# EAGLE library part ATMEGA328PB (library StevenV1)
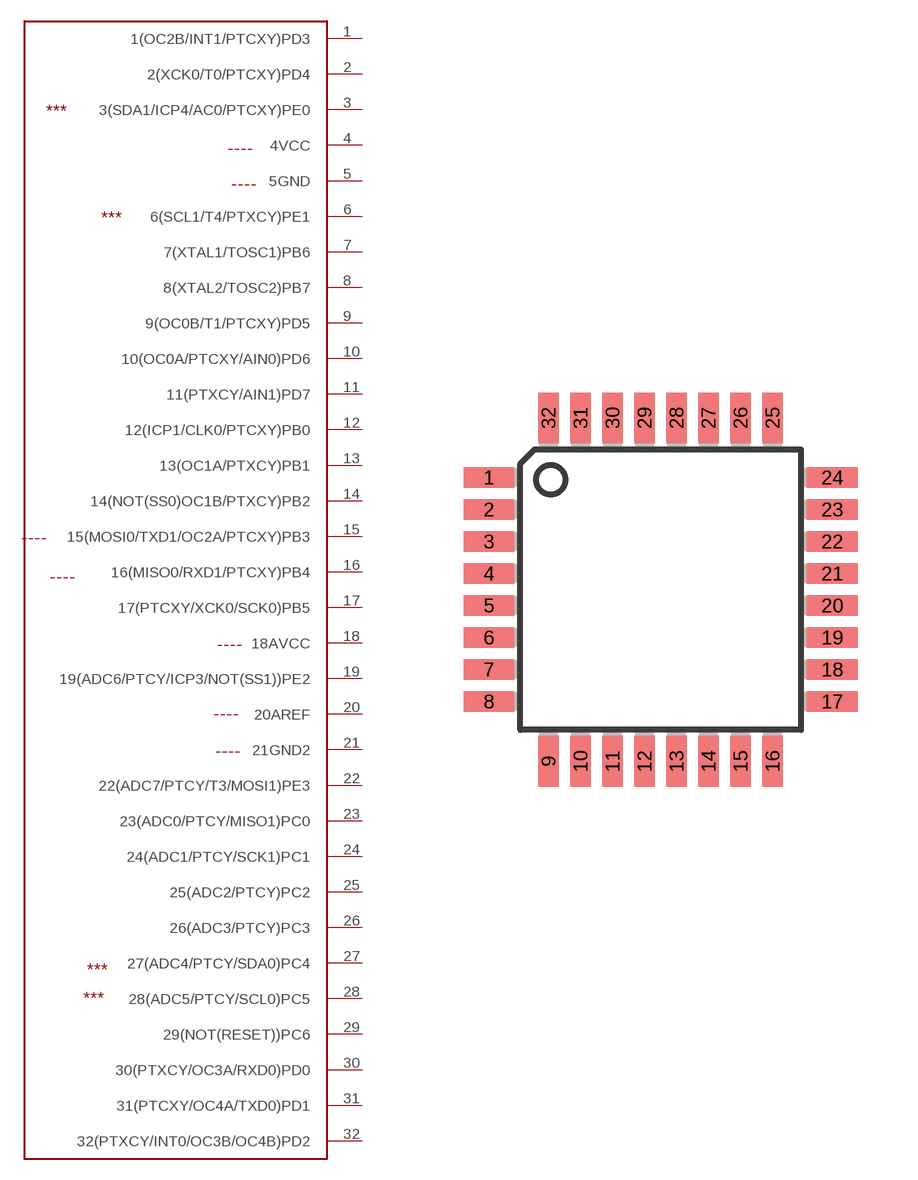
[diagram p14: symbol with the pads of TQFP32-08; footprint TQFP32-08]

Designator prefix -

## ATMEGA328PB  [TQFP32-08]
1  1(OC2B/INT1/PTCXY)PD3
2  2(XCK0/T0/PTCXY)PD4
3  3(SDA1/ICP4/AC0/PTCXY)PE0
4  4VCC
5  5GND
6  6(SCL1/T4/PTXCY)PE1
7  7(XTAL1/TOSC1)PB6
8  8(XTAL2/TOSC2)PB7
9  9(OC0B/T1/PTCXY)PD5
10  10(OC0A/PTCXY/AIN0)PD6
11  11(PTXCY/AIN1)PD7
12  12(ICP1/CLK0/PTCXY)PB0
13  13(OC1A/PTXCY)PB1
14  14(NOT(SS0)OC1B/PTXCY)PB2
15  15(MOSI0/TXD1/OC2A/PTCXY)PB3
16  16(MISO0/RXD1/PTCXY)PB4
17  17(PTCXY/XCK0/SCK0)PB5
18  18AVCC
19  19(ADC6/PTCY/ICP3/NOT(SS1))PE2
20  20AREF
21  21GND2
22  22(ADC7/PTCY/T3/MOSI1)PE3
23  23(ADC0/PTCY/MISO1)PC0
24  24(ADC1/PTCY/SCK1)PC1
25  25(ADC2/PTCY)PC2
26  26(ADC3/PTCY)PC3
27  27(ADC4/PTCY/SDA0)PC4
28  28(ADC5/PTCY/SCL0)PC5
29  29(NOT(RESET))PC6
30  30(PTXCY/OC3A/RXD0)PD0
31  31(PTCXY/OC4A/TXD0)PD1
32  32(PTXCY/INT0/OC3B/OC4B)PD2

## Footprint TQFP32-08 (pad centres in mm)
Thin Plasic Quad Flat Package Grid 0.8 mm
smd 1.27 x 0.508: 1 -4.293,2.8; 2 -4.293,2; 3 -4.293,1.2; 4 -4.293,0.4; 5 -4.293,-0.4; 6 -4.293,-1.2; 7 -4.293,-2; 8 -4.293,-2.8; 17 4.293,-2.8; 18 4.293,-2; 19 4.293,-1.2; 20 4.293,-0.4; 21 4.293,0.4; 22 4.293,1.2; 23 4.293,2; 24 4.293,2.8
smd 0.508 x 1.27: 9 -2.8,-4.293; 10 -2,-4.293; 11 -1.2,-4.293; 12 -0.4,-4.293; 13 0.4,-4.293; 14 1.2,-4.293; 15 2,-4.293; 16 2.8,-4.293; 25 2.8,4.293; 26 2,4.293; 27 1.2,4.293; 28 0.4,4.293; 29 -0.4,4.293; 30 -1.2,4.293; 31 -2,4.293; 32 -2.8,4.293